# Altium footprint library PcbLib1.PcbLib: 1 footprints
Each footprint in its own frame and in the unit in brackets; x right, y up, seen from the top. Pads: shape width x height; smd on the part's side, far side on the other; paste and mask are expansions set on the pad; w line width, h text height; cw(c..) or ccw(c..) is an arc to the next point about the centre after c.
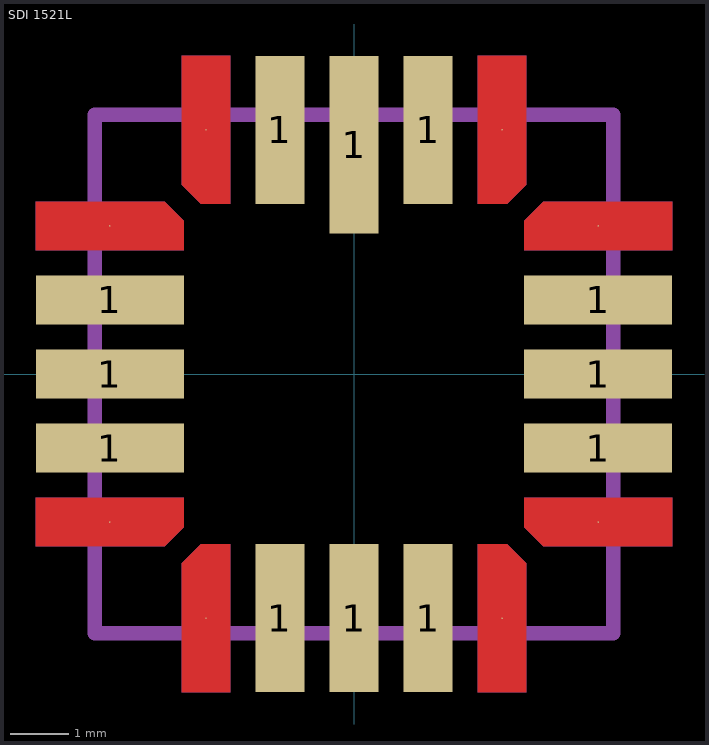
[diagram p0: the footprint, top view; thin cyan lines are the x and y axes]

## SDI 1521L [mm]
pads (20):
  rect 2.54x0.84 all layers, no hole: 1(-4.19,-1.27) 1(-4.19,0) 1(-4.19,1.27) 1(4.19,-1.27) 1(4.19,0) 1(4.19,1.27)
  rect 0.84x2.54 all layers, no hole: 1(-1.27,-4.19) 1(-1.27,4.19) 1(0,-4.19) 1(1.27,-4.19) 1(1.27,4.19)
  rect 0.84x3.05 all layers, no hole: 1(0,3.935)
  round 0.025 all layers, no hole: 2(-4.19,-2.54) 2(-4.19,2.54) 2(-2.54,-4.19) 2(-2.54,4.19) 2(2.54,-4.19) 2(2.54,4.19) 2(4.19,-2.54) 2(4.19,2.54)
Top Layer:
  region: 5.46,-2.96 5.46,-2.12 2.92,-2.12 2.92,-2.63 3.25,-2.96
  region: -5.46,2.96 -5.46,2.12 -2.92,2.12 -2.92,2.63 -3.25,2.96
  region: 5.46,2.96 5.46,2.12 2.92,2.12 2.92,2.63 3.25,2.96
  region: -5.46,-2.96 -5.46,-2.12 -2.92,-2.12 -2.92,-2.63 -3.25,-2.96
  region: -2.96,-5.46 -2.12,-5.46 -2.12,-2.92 -2.63,-2.92 -2.96,-3.25
  region: 2.96,-5.46 2.12,-5.46 2.12,-2.92 2.63,-2.92 2.96,-3.25
  region: 2.96,5.46 2.12,5.46 2.12,2.92 2.63,2.92 2.96,3.25
  region: -2.96,5.46 -2.12,5.46 -2.12,2.92 -2.63,2.92 -2.96,3.25
Bottom Layer:
  region: 5.46,-2.96 5.46,-2.12 2.92,-2.12 2.92,-2.63 3.25,-2.96
  region: -5.46,2.96 -5.46,2.12 -2.92,2.12 -2.92,2.63 -3.25,2.96
  region: 5.46,2.96 5.46,2.12 2.92,2.12 2.92,2.63 3.25,2.96
  region: -5.46,-2.96 -5.46,-2.12 -2.92,-2.12 -2.92,-2.63 -3.25,-2.96
  region: -2.96,-5.46 -2.12,-5.46 -2.12,-2.92 -2.63,-2.92 -2.96,-3.25
  region: 2.96,-5.46 2.12,-5.46 2.12,-2.92 2.63,-2.92 2.96,-3.25
  region: 2.96,5.46 2.12,5.46 2.12,2.92 2.63,2.92 2.96,3.25
  region: -2.96,5.46 -2.12,5.46 -2.12,2.92 -2.63,2.92 -2.96,3.25
Mechanical 1:
  lines w0.254: -4.45,-4.45 -4.45,4.45 4.45,4.45 4.45,-4.45 -4.45,-4.45